# Altium footprint library LT-M-3_N.PcbLib: 1 footprints
Each footprint in its own frame and in the unit in brackets; x right, y up, seen from the top. Pads: shape width x height; smd on the part's side, far side on the other; paste and mask are expansions set on the pad; w line width, h text height; cw(c..) or ccw(c..) is an arc to the next point about the centre after c.
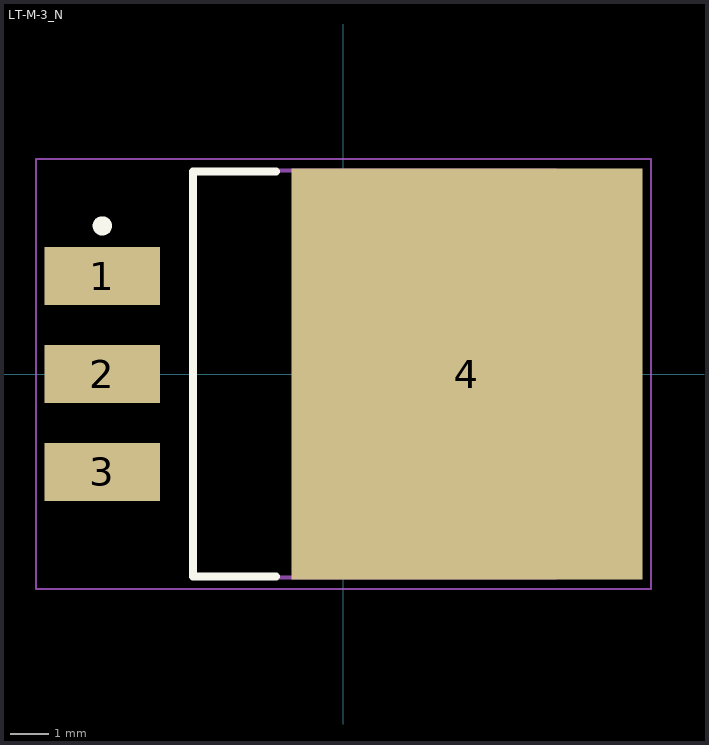
[diagram p0: the footprint, top view; thin cyan lines are the x and y axes]

## LT-M-3_N [mm] "DPAK, 3-Leads, Body 10.55x9.4mm, Pitch 2.54mm, IPC Medium Density"
height 4.78
pads (4):
  rect 3x1.5 smd: 1(-6.25,2.54) 2(-6.25,0) 3(-6.25,-2.54)
  rect 9.1x10.65 smd: 4(3.2,0)
Top Overlay:
  circle w0.25: c-6.25,3.84 r0.125
  lines w0.2: -1.75,-5.25 -3.9,-5.25 -3.9,5.25 -1.75,5.25
Mechanical 13:
  lines w0.1: -3.9,-5.275 -3.9,5.275 5.5,5.275 5.5,-5.275 -3.9,-5.275
Mechanical 15:
  lines w0.05: -7.975,-5.575 -7.975,5.575 7.975,5.575 7.975,-5.575 -7.975,-5.575
  lines w0.1: -0.5,0 0.5,0 ; 0,-0.5 0,0.5
3D body: height 4.78, standoff 0, extent -3.9,-5.275 5.5,5.275